# Altium footprint library CUI Barrel Jack.PcbLib: 1 footprints
Each footprint in its own frame and in the unit in brackets; x right, y up, seen from the top. Pads: shape width x height; smd on the part's side, far side on the other; paste and mask are expansions set on the pad; w line width, h text height; cw(c..) or ccw(c..) is an arc to the next point about the centre after c.
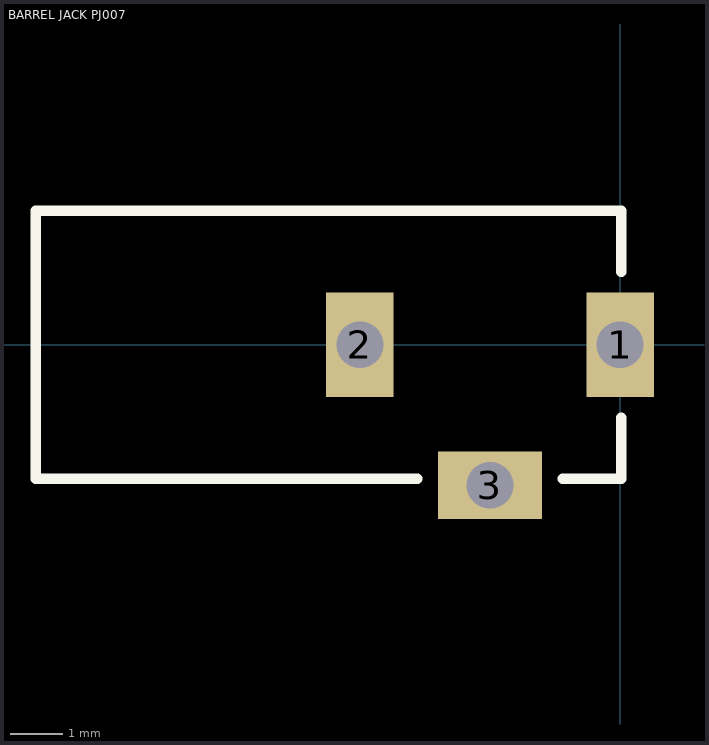
[diagram p0: the footprint, top view; thin cyan lines are the x and y axes]

## BARREL JACK PJ007 [mm] "Pin connections for Barrel Jack"
height 5.4
pads (3):
  rect 1.3x2 hole 0.9 square: 1(0,0) 2(-5,0)
  rect 2x1.3 hole 0.9 square: 3(-2.5,-2.7)
Top Overlay:
  lines w0.2: -3.9,-2.575 -11.225,-2.575 -11.225,2.575 0.025,2.575 0.025,1.4 ; -1.1,-2.575 0.025,-2.575 0.025,-1.4
3D body "pj-007.stp": height 7.4, standoff -3.2, extent -11.313,-2.683 0.137,2.667